# EAGLE library part MICROCHIP_MCP16331T-E-CH (library Upverter Library)
High-Voltage Input Integrated Switch Step-Down Regulator
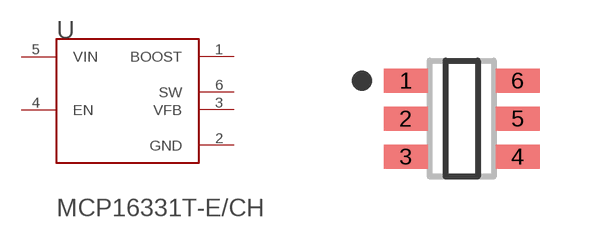
[diagram p0: symbol with the pads of MICROCHIP_MCP16331T-E-CH_0; footprint MICROCHIP_MCP16331T-E-CH_0]

Designator prefix U

## MICROCHIP_MCP16331T-E-CHMICROCHIP_MCP16331T-E-CH_0_0 (MF: Microchip; MPN: MCP16331T-E/CH; centroid_not_specified: No; datasheet: http://ww1.microchip.com/downloads/en/DeviceDoc/20005308B.pdf; digikey_description: IC REG BUCK ADJ 0.5A SOT23-6; digikey_part_number: MCP16331T-E/CHCT-ND; lead_free: yes; mouser_part_number: 579-MCP16331T-E/CH; package: SOT-23-6; prefix: U; rohs: yes; temperature_range_high: +125°C; temperature_range_low: -40°C)  [MICROCHIP_MCP16331T-E-CH_0]
1  BOOST
2  GND
3  VFB
4  EN
5  VIN
6  SW

## Footprint MICROCHIP_MCP16331T-E-CH_0 (pad centres in mm)
High-Voltage Input Integrated Switch Step-Down Regulator
smd 1.1 x 0.6: 1 -1.4,0.95; 2 -1.4,0; 3 -1.4,-0.95; 4 1.4,-0.95; 5 1.4,0; 6 1.4,0.95